# Altium footprint library Silicon Labs.PcbLib: 22 footprints (part 2 of 2)
Each footprint in its own frame and in the unit in brackets; x right, y up, seen from the top. Pads: shape width x height; smd on the part's side, far side on the other; paste and mask are expansions set on the pad; w line width, h text height; cw(c..) or ccw(c..) is an arc to the next point about the centre after c.
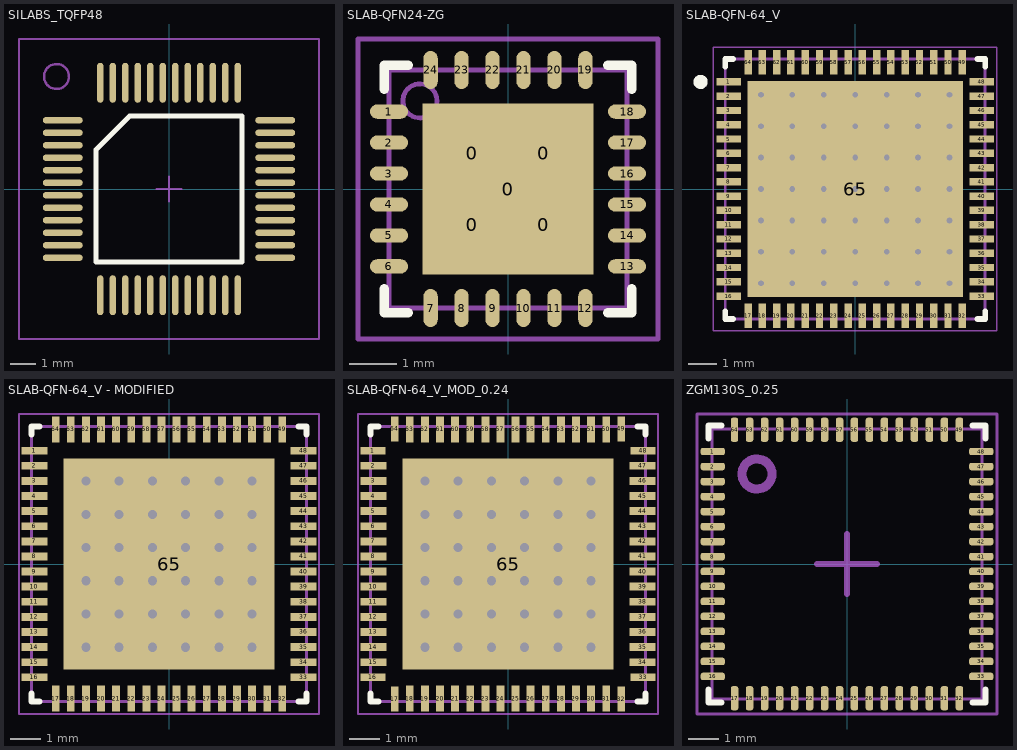
[diagram p1: the footprints below, top view; thin cyan lines are the x and y axes]

## SILABS_TQFP48 [mm]
pads (48):
  oval 1.6x0.25 smd: 1(-4.25,2.75) 2(-4.25,2.25) 3(-4.25,1.75) 4(-4.25,1.25) 5(-4.25,0.75) 6(-4.25,0.25) 7(-4.25,-0.25) 8(-4.25,-0.75) 9(-4.25,-1.25) 10(-4.25,-1.75) 11(-4.25,-2.25) 12(-4.25,-2.75) 25(4.25,-2.75) 26(4.25,-2.25) 27(4.25,-1.75) 28(4.25,-1.25) 29(4.25,-0.75) 30(4.25,-0.25) 31(4.25,0.25) 32(4.25,0.75) 33(4.25,1.25) 34(4.25,1.75) 35(4.25,2.25) 36(4.25,2.75)
  oval 0.25x1.6 smd: 13(-2.75,-4.25) 14(-2.25,-4.25) 15(-1.75,-4.25) 16(-1.25,-4.25) 17(-0.75,-4.25) 18(-0.25,-4.25) 19(0.25,-4.25) 20(0.75,-4.25) 21(1.25,-4.25) 22(1.75,-4.25) 23(2.25,-4.25) 24(2.75,-4.25) 37(2.75,4.25) 38(2.25,4.25) 39(1.75,4.25) 40(1.25,4.25) 41(0.75,4.25) 42(0.25,4.25) 43(-0.25,4.25) 44(-0.75,4.25) 45(-1.25,4.25) 46(-1.75,4.25) 47(-2.25,4.25) 48(-2.75,4.25)
Top Overlay:
  lines w0.2: -2.915,-2.915 -2.915,1.58 -1.58,2.915 2.915,2.915 2.915,-2.915 -2.915,-2.915
Mechanical 15:
  circle w0.1: c-4.5,4.5 r0.5
  lines w0.1: -0.5,0 0.5,0 ; 0,-0.5 0,0.5 ; -6,-6 6,-6 6,6 -6,6 -6,-6
3D body: height 1.6, standoff 0, extent -4.5,-4.5 4.5,4.5

## SLAB-QFN24-ZG [mm]
height 0.9
pads (29):
  rrect50% 1x1 smd: 0(-0.75,-0.75) 0(-0.75,0.75) 0(0.75,-0.75) 0(0.75,0.75)
  rect 3.6x3.6 smd paste-4: 0(0,0)
  oval 0.8x0.3 smd: 1(-2.5,1.625) 2(-2.5,0.975) 3(-2.5,0.325) 4(-2.5,-0.325) 5(-2.5,-0.975) 6(-2.5,-1.625) 13(2.5,-1.625) 14(2.5,-0.975) 15(2.5,-0.325) 16(2.5,0.325) 17(2.5,0.975) 18(2.5,1.625)
  oval 0.3x0.8 smd: 7(-1.625,-2.5) 8(-0.975,-2.5) 9(-0.325,-2.5) 10(0.325,-2.5) 11(0.975,-2.5) 12(1.625,-2.5) 19(1.625,2.5) 20(0.975,2.5) 21(0.325,2.5) 22(-0.325,2.5) 23(-0.975,2.5) 24(-1.625,2.5)
Top Overlay:
  lines w0.2: -2.6,-2.1 -2.6,-2.6 -2.1,-2.6 ; -2.6,2.1 -2.6,2.6 -2.1,2.6 ; 2.1,-2.6 2.6,-2.6 2.6,-2.1 ; 2.1,2.6 2.6,2.6 2.6,2.1
Mechanical 13:
  circle w0.1: c-1.85,1.85 r0.358
  lines w0.1: -2.5,-2.5 -2.5,2.5 2.5,2.5 2.5,-2.5 -2.5,-2.5
Mechanical 15:
  lines w0.1: -0.5,0 0.5,0 ; 0,-0.5 0,0.5 ; -3.15,-3.15 3.15,-3.15 3.15,3.15 -3.15,3.15 -3.15,-3.15
3D body: height 0.9, standoff 0, extent -2.5,-2.5 2.5,2.5

## SLAB-QFN-64_V [mm] "QFN, 64-Leads, Body 9.1x9.1mm, Pitch 0.5mm, Thermal Pad 7.55x7.55mm"
height 0.9
pads (65):
  rect 0.86x0.26 smd mask+0.06: 1(-4.435,3.75) 2(-4.435,3.25) 3(-4.435,2.75) 4(-4.435,2.25) 5(-4.435,1.75) 6(-4.435,1.25) 7(-4.435,0.75) 8(-4.435,0.25) 9(-4.435,-0.25) 10(-4.435,-0.75) 11(-4.435,-1.25) 12(-4.435,-1.75) 13(-4.435,-2.25) 14(-4.435,-2.75) 15(-4.435,-3.25) 16(-4.435,-3.75) 33(4.435,-3.75) 34(4.435,-3.25) 35(4.435,-2.75) 36(4.435,-2.25) 37(4.435,-1.75) 38(4.435,-1.25) 39(4.435,-0.75) 40(4.435,-0.25) 41(4.435,0.25) 42(4.435,0.75) 43(4.435,1.25) 44(4.435,1.75) 45(4.435,2.25) 46(4.435,2.75) 47(4.435,3.25) 48(4.435,3.75)
  rect 0.26x0.86 smd mask+0.06: 17(-3.75,-4.435) 18(-3.25,-4.435) 19(-2.75,-4.435) 20(-2.25,-4.435) 21(-1.75,-4.435) 22(-1.25,-4.435) 23(-0.75,-4.435) 24(-0.25,-4.435) 25(0.25,-4.435) 26(0.75,-4.435) 27(1.25,-4.435) 28(1.75,-4.435) 29(2.25,-4.435) 30(2.75,-4.435) 31(3.25,-4.435) 32(3.75,-4.435) 49(3.75,4.435) 50(3.25,4.435) 51(2.75,4.435) 52(2.25,4.435) 53(1.75,4.435) 54(1.25,4.435) 55(0.75,4.435) 56(0.25,4.435) 57(-0.25,4.435) 58(-0.75,4.435) 59(-1.25,4.435) 60(-1.75,4.435) 61(-2.25,4.435) 62(-2.75,4.435) 63(-3.25,4.435) 64(-3.75,4.435)
  rect 7.55x7.55 smd paste-7.55 mask+0.06: 65(0,0)
via 3.3,3.3 diameter 0.5 hole 0.2
via -3.3,3.3 diameter 0.5 hole 0.2
via -3.3,2.2 diameter 0.5 hole 0.2
via -3.3,1.1 diameter 0.5 hole 0.2
via -3.3,0 diameter 0.5 hole 0.2
via -3.3,-1.1 diameter 0.5 hole 0.2
via -3.3,-2.2 diameter 0.5 hole 0.2
via -3.3,-3.3 diameter 0.5 hole 0.2
via -2.2,3.3 diameter 0.5 hole 0.2
via -2.2,2.2 diameter 0.5 hole 0.2
via -2.2,1.1 diameter 0.5 hole 0.2
via -2.2,0 diameter 0.5 hole 0.2
via -2.2,-1.1 diameter 0.5 hole 0.2
via -2.2,-2.2 diameter 0.5 hole 0.2
via -2.2,-3.3 diameter 0.5 hole 0.2
via -1.1,3.3 diameter 0.5 hole 0.2
via -1.1,2.2 diameter 0.5 hole 0.2
via -1.1,1.1 diameter 0.5 hole 0.2
via -1.1,0 diameter 0.5 hole 0.2
via -1.1,-1.1 diameter 0.5 hole 0.2
via -1.1,-2.2 diameter 0.5 hole 0.2
via -1.1,-3.3 diameter 0.5 hole 0.2
via 0,3.3 diameter 0.5 hole 0.2
via 0,2.2 diameter 0.5 hole 0.2
via 0,1.1 diameter 0.5 hole 0.2
via 0,0 diameter 0.5 hole 0.2
via 0,-1.1 diameter 0.5 hole 0.2
via 0,-2.2 diameter 0.5 hole 0.2
via 0,-3.3 diameter 0.5 hole 0.2
via 1.1,3.3 diameter 0.5 hole 0.2
via 1.1,2.2 diameter 0.5 hole 0.2
via 1.1,1.1 diameter 0.5 hole 0.2
via 1.1,0 diameter 0.5 hole 0.2
via 1.1,-1.1 diameter 0.5 hole 0.2
via 1.1,-2.2 diameter 0.5 hole 0.2
via 1.1,-3.3 diameter 0.5 hole 0.2
via 2.2,3.3 diameter 0.5 hole 0.2
via 2.2,2.2 diameter 0.5 hole 0.2
via 2.2,1.1 diameter 0.5 hole 0.2
via 2.2,0 diameter 0.5 hole 0.2
via 2.2,-1.1 diameter 0.5 hole 0.2
via 2.2,-2.2 diameter 0.5 hole 0.2
via 2.2,-3.3 diameter 0.5 hole 0.2
via 3.3,2.2 diameter 0.5 hole 0.2
via 3.3,1.1 diameter 0.5 hole 0.2
via 3.3,0 diameter 0.5 hole 0.2
via 3.3,-1.1 diameter 0.5 hole 0.2
via 3.3,-2.2 diameter 0.5 hole 0.2
via 3.3,-3.3 diameter 0.5 hole 0.2
Top Overlay:
  circle w0.25: c-5.415,3.75 r0.125
  lines w0.2: -4.55,-4.28 -4.55,-4.55 -4.28,-4.55 ; -4.55,4.28 -4.55,4.55 -4.28,4.55 ; 4.28,-4.55 4.55,-4.55 4.55,-4.28 ; 4.28,4.55 4.55,4.55 4.55,4.28
Top Paste:
  rectangle: -2.8,1.55 -1.55,2.8
  rectangle: -2.8,0.1 -1.55,1.35
  rectangle: -2.8,-1.35 -1.55,-0.1
  rectangle: -2.8,-2.8 -1.55,-1.55
  region: 2.8,-1.55 1.55,-1.55 1.55,-2.8 2.8,-2.8
  region: 2.8,-0.1 1.55,-0.1 1.55,-1.35 2.8,-1.35
  region: 2.8,1.35 1.55,1.35 1.55,0.1 2.8,0.1
  region: 2.8,2.8 1.55,2.8 1.55,1.55 2.8,1.55
  region: -0.1,-2.8 -0.1,-1.55 -1.35,-1.55 -1.35,-2.8
  region: 0.1,2.8 0.1,1.55 1.35,1.55 1.35,2.8
  region: -1.35,2.8 -1.35,1.55 -0.1,1.55 -0.1,2.8
  region: 1.35,-2.8 1.35,-1.55 0.1,-1.55 0.1,-2.8
  region: -1.35,1.35 -1.35,0.1 -0.1,0.1 -0.1,1.35
  region: -1.35,-0.1 -1.35,-1.35 -0.1,-1.35 -0.1,-0.1
  region: 0.1,1.35 0.1,0.1 1.35,0.1 1.35,1.35
  region: 0.1,-0.1 0.1,-1.35 1.35,-1.35 1.35,-0.1
Mechanical 13:
  lines w0.1: -4.55,-4.55 4.55,-4.55 4.55,4.55 -4.55,4.55 -4.55,-4.55
Mechanical 15:
  lines w0.05: -4.965,-4.965 -4.965,4.965 4.965,4.965 4.965,-4.965 -4.965,-4.965
  lines w0.1: -0.5,0 0.5,0 ; 0,-0.5 0,0.5
3D body: height 0.9, standoff 0, extent -4.55,-4.55 4.55,4.55

## SLAB-QFN-64_V - MODIFIED [mm] "QFN, 64-Leads, Body 9.1x9.1mm, Pitch 0.5mm, Thermal Pad 7.55x7.55mm"
height 0.9
pads (65):
  rect 0.86x0.26 smd mask+0.06: 1(-4.455,3.75) 2(-4.455,3.25) 3(-4.455,2.75) 4(-4.455,2.25) 5(-4.455,1.75) 6(-4.455,1.25) 7(-4.455,0.75) 8(-4.455,0.25) 9(-4.455,-0.25) 10(-4.455,-0.75) 11(-4.455,-1.25) 12(-4.455,-1.75) 13(-4.455,-2.25) 14(-4.455,-2.75) 15(-4.455,-3.25) 16(-4.455,-3.75) 33(4.455,-3.75) 34(4.455,-3.25) 35(4.455,-2.75) 36(4.455,-2.25) 37(4.455,-1.75) 38(4.455,-1.25) 39(4.455,-0.75) 40(4.455,-0.25) 41(4.455,0.25) 42(4.455,0.75) 43(4.455,1.25) 44(4.455,1.75) 45(4.455,2.25) 46(4.455,2.75) 47(4.455,3.25) 48(4.455,3.75)
  rect 0.26x0.86 smd mask+0.06: 17(-3.75,-4.455) 18(-3.25,-4.455) 19(-2.75,-4.455) 20(-2.25,-4.455) 21(-1.75,-4.455) 22(-1.25,-4.455) 23(-0.75,-4.455) 24(-0.25,-4.455) 25(0.25,-4.455) 26(0.75,-4.455) 27(1.25,-4.455) 28(1.75,-4.455) 29(2.25,-4.455) 30(2.75,-4.455) 31(3.25,-4.455) 32(3.75,-4.455) 49(3.75,4.455) 50(3.25,4.455) 51(2.75,4.455) 52(2.25,4.455) 53(1.75,4.455) 54(1.25,4.455) 55(0.75,4.455) 56(0.25,4.455) 57(-0.25,4.455) 58(-0.75,4.455) 59(-1.25,4.455) 60(-1.75,4.455) 61(-2.25,4.455) 62(-2.75,4.455) 63(-3.25,4.455) 64(-3.75,4.455)
  rect 7x7 smd paste-7.55 mask+0.06: 65(0,0)
via 2.75,-2.755 diameter 0.6 hole 0.3
via 2.75,-1.655 diameter 0.6 hole 0.3
via 2.75,-0.555 diameter 0.6 hole 0.3
via 2.75,0.545 diameter 0.6 hole 0.3
via 2.75,1.645 diameter 0.6 hole 0.3
via 2.75,2.745 diameter 0.6 hole 0.3
via 1.65,-2.755 diameter 0.6 hole 0.3
via 1.65,-1.655 diameter 0.6 hole 0.3
via 1.65,-0.555 diameter 0.6 hole 0.3
via 1.65,0.545 diameter 0.6 hole 0.3
via 1.65,1.645 diameter 0.6 hole 0.3
via 1.65,2.745 diameter 0.6 hole 0.3
via 0.55,-2.755 diameter 0.6 hole 0.3
via 0.55,-1.655 diameter 0.6 hole 0.3
via 0.55,-0.555 diameter 0.6 hole 0.3
via 0.55,0.545 diameter 0.6 hole 0.3
via 0.55,1.645 diameter 0.6 hole 0.3
via 0.55,2.745 diameter 0.6 hole 0.3
via -0.55,-2.755 diameter 0.6 hole 0.3
via -0.55,-1.655 diameter 0.6 hole 0.3
via -0.55,-0.555 diameter 0.6 hole 0.3
via -0.55,0.545 diameter 0.6 hole 0.3
via -0.55,1.645 diameter 0.6 hole 0.3
via -0.55,2.745 diameter 0.6 hole 0.3
via -1.65,-2.755 diameter 0.6 hole 0.3
via -1.65,-1.655 diameter 0.6 hole 0.3
via -1.65,-0.555 diameter 0.6 hole 0.3
via -1.65,0.545 diameter 0.6 hole 0.3
via -1.65,1.645 diameter 0.6 hole 0.3
via -1.65,2.745 diameter 0.6 hole 0.3
via -2.75,-2.755 diameter 0.6 hole 0.3
via -2.75,-1.655 diameter 0.6 hole 0.3
via -2.75,-0.555 diameter 0.6 hole 0.3
via -2.75,0.545 diameter 0.6 hole 0.3
via -2.75,1.645 diameter 0.6 hole 0.3
via -2.75,2.745 diameter 0.6 hole 0.3
Top Overlay:
  lines w0.2: -4.55,-4.28 -4.55,-4.55 -4.28,-4.55 ; -4.55,4.28 -4.55,4.55 -4.28,4.55 ; 4.28,-4.55 4.55,-4.55 4.55,-4.28 ; 4.28,4.55 4.55,4.55 4.55,4.28
Top Paste:
  region: 0.1,-0.1 0.1,-1.35 1.35,-1.35 1.35,-0.1
  region: 0.1,1.35 0.1,0.1 1.35,0.1 1.35,1.35
  region: -1.35,-0.1 -1.35,-1.35 -0.1,-1.35 -0.1,-0.1
  region: -1.35,1.35 -1.35,0.1 -0.1,0.1 -0.1,1.35
  region: 1.35,-2.8 1.35,-1.55 0.1,-1.55 0.1,-2.8
  region: -1.35,2.8 -1.35,1.55 -0.1,1.55 -0.1,2.8
  region: 0.1,2.8 0.1,1.55 1.35,1.55 1.35,2.8
  region: -0.1,-2.8 -0.1,-1.55 -1.35,-1.55 -1.35,-2.8
  region: 2.8,2.8 1.55,2.8 1.55,1.55 2.8,1.55
  region: 2.8,1.35 1.55,1.35 1.55,0.1 2.8,0.1
  region: 2.8,-0.1 1.55,-0.1 1.55,-1.35 2.8,-1.35
  region: 2.8,-1.55 1.55,-1.55 1.55,-2.8 2.8,-2.8
  rectangle: -2.8,-2.8 -1.55,-1.55
  rectangle: -2.8,-1.35 -1.55,-0.1
  rectangle: -2.8,0.1 -1.55,1.35
  rectangle: -2.8,1.55 -1.55,2.8
Mechanical 13:
  lines w0.1: -4.55,-4.55 -4.55,4.55 4.55,4.55 4.55,-4.55 -4.55,-4.55
Mechanical 15:
  lines w0.05: -4.965,-4.965 4.965,-4.965 4.965,4.965 -4.965,4.965 -4.965,-4.965
  lines w0.1: -0.5,0 0.5,0 ; 0,-0.5 0,0.5
3D body: height 0.9, standoff 0, extent -4.52,-4.54 4.52,4.5

## SLAB-QFN-64_V_MOD_0.24 [mm] "QFN, 64-Leads, Body 9.1x9.1mm, Pitch 0.5mm, Thermal Pad 7.55x7.55mm"
height 0.9
pads (65):
  rect 0.83x0.26 smd mask+0.06: 1(-4.47,3.75) 16(-4.47,-3.75) 33(4.47,-3.75) 48(4.47,3.75)
  rect 0.86x0.26 smd mask+0.06: 2(-4.455,3.25) 3(-4.455,2.75) 4(-4.455,2.25) 5(-4.455,1.75) 6(-4.455,1.25) 7(-4.455,0.75) 8(-4.455,0.25) 9(-4.455,-0.25) 10(-4.455,-0.75) 11(-4.455,-1.25) 12(-4.455,-1.75) 13(-4.455,-2.25) 14(-4.455,-2.75) 15(-4.455,-3.25) 34(4.455,-3.25) 35(4.455,-2.75) 36(4.455,-2.25) 37(4.455,-1.75) 38(4.455,-1.25) 39(4.455,-0.75) 40(4.455,-0.25) 41(4.455,0.25) 42(4.455,0.75) 43(4.455,1.25) 44(4.455,1.75) 45(4.455,2.25) 46(4.455,2.75) 47(4.455,3.25)
  rect 0.26x0.83 smd mask+0.06: 17(-3.75,-4.47) 32(3.75,-4.47) 49(3.75,4.47) 64(-3.75,4.47)
  rect 0.26x0.86 smd mask+0.06: 18(-3.25,-4.455) 19(-2.75,-4.455) 20(-2.25,-4.455) 21(-1.75,-4.455) 22(-1.25,-4.455) 23(-0.75,-4.455) 24(-0.25,-4.455) 25(0.25,-4.455) 26(0.75,-4.455) 27(1.25,-4.455) 28(1.75,-4.455) 29(2.25,-4.455) 30(2.75,-4.455) 31(3.25,-4.455) 50(3.25,4.455) 51(2.75,4.455) 52(2.25,4.455) 53(1.75,4.455) 54(1.25,4.455) 55(0.75,4.455) 56(0.25,4.455) 57(-0.25,4.455) 58(-0.75,4.455) 59(-1.25,4.455) 60(-1.75,4.455) 61(-2.25,4.455) 62(-2.75,4.455) 63(-3.25,4.455)
  rect 7x7 smd paste-7.55 mask+0.06: 65(0,0)
via 2.75,-2.755 diameter 0.6 hole 0.3
via 2.75,-1.655 diameter 0.6 hole 0.3
via 2.75,-0.555 diameter 0.6 hole 0.3
via 2.75,0.545 diameter 0.6 hole 0.3
via 2.75,1.645 diameter 0.6 hole 0.3
via 2.75,2.745 diameter 0.6 hole 0.3
via 1.65,-2.755 diameter 0.6 hole 0.3
via 1.65,-1.655 diameter 0.6 hole 0.3
via 1.65,-0.555 diameter 0.6 hole 0.3
via 1.65,0.545 diameter 0.6 hole 0.3
via 1.65,1.645 diameter 0.6 hole 0.3
via 1.65,2.745 diameter 0.6 hole 0.3
via 0.55,-2.755 diameter 0.6 hole 0.3
via 0.55,-1.655 diameter 0.6 hole 0.3
via 0.55,-0.555 diameter 0.6 hole 0.3
via 0.55,0.545 diameter 0.6 hole 0.3
via 0.55,1.645 diameter 0.6 hole 0.3
via 0.55,2.745 diameter 0.6 hole 0.3
via -0.55,-2.755 diameter 0.6 hole 0.3
via -0.55,-1.655 diameter 0.6 hole 0.3
via -0.55,-0.555 diameter 0.6 hole 0.3
via -0.55,0.545 diameter 0.6 hole 0.3
via -0.55,1.645 diameter 0.6 hole 0.3
via -0.55,2.745 diameter 0.6 hole 0.3
via -1.65,-2.755 diameter 0.6 hole 0.3
via -1.65,-1.655 diameter 0.6 hole 0.3
via -1.65,-0.555 diameter 0.6 hole 0.3
via -1.65,0.545 diameter 0.6 hole 0.3
via -1.65,1.645 diameter 0.6 hole 0.3
via -1.65,2.745 diameter 0.6 hole 0.3
via -2.75,-2.755 diameter 0.6 hole 0.3
via -2.75,-1.655 diameter 0.6 hole 0.3
via -2.75,-0.555 diameter 0.6 hole 0.3
via -2.75,0.545 diameter 0.6 hole 0.3
via -2.75,1.645 diameter 0.6 hole 0.3
via -2.75,2.745 diameter 0.6 hole 0.3
Top Overlay:
  lines w0.2: -4.55,-4.28 -4.55,-4.55 -4.28,-4.55 ; -4.55,4.28 -4.55,4.55 -4.28,4.55 ; 4.28,-4.55 4.55,-4.55 4.55,-4.28 ; 4.28,4.55 4.55,4.55 4.55,4.28
Top Paste:
  region: 0.1,-0.1 0.1,-1.35 1.35,-1.35 1.35,-0.1
  region: 0.1,1.35 0.1,0.1 1.35,0.1 1.35,1.35
  region: -1.35,-0.1 -1.35,-1.35 -0.1,-1.35 -0.1,-0.1
  region: -1.35,1.35 -1.35,0.1 -0.1,0.1 -0.1,1.35
  region: 1.35,-2.8 1.35,-1.55 0.1,-1.55 0.1,-2.8
  region: -1.35,2.8 -1.35,1.55 -0.1,1.55 -0.1,2.8
  region: 0.1,2.8 0.1,1.55 1.35,1.55 1.35,2.8
  region: -0.1,-2.8 -0.1,-1.55 -1.35,-1.55 -1.35,-2.8
  region: 2.8,2.8 1.55,2.8 1.55,1.55 2.8,1.55
  region: 2.8,1.35 1.55,1.35 1.55,0.1 2.8,0.1
  region: 2.8,-0.1 1.55,-0.1 1.55,-1.35 2.8,-1.35
  region: 2.8,-1.55 1.55,-1.55 1.55,-2.8 2.8,-2.8
  rectangle: -2.8,-2.8 -1.55,-1.55
  rectangle: -2.8,-1.35 -1.55,-0.1
  rectangle: -2.8,0.1 -1.55,1.35
  rectangle: -2.8,1.55 -1.55,2.8
Mechanical 13:
  lines w0.1: -4.55,-4.55 -4.55,4.55 4.55,4.55 4.55,-4.55 -4.55,-4.55
Mechanical 15:
  lines w0.05: -4.965,-4.965 4.965,-4.965 4.965,4.965 -4.965,4.965 -4.965,-4.965
  lines w0.1: -0.5,0 0.5,0 ; 0,-0.5 0,0.5
3D body: height 0.9, standoff 0, extent -4.52,-4.54 4.52,4.5

## ZGM130S_0.25 [mm]
pads (64):
  rrect50% 0.8x0.25 smd paste+0: 1(-4.475,3.75)
  rrect50% 0.8x0.25 smd: 2(-4.475,3.25) 3(-4.475,2.75) 4(-4.475,2.25) 5(-4.475,1.75) 6(-4.475,1.25) 7(-4.475,0.75) 8(-4.475,0.25) 9(-4.475,-0.25) 10(-4.475,-0.75) 11(-4.475,-1.25) 12(-4.475,-1.75) 13(-4.475,-2.25) 14(-4.475,-2.75) 15(-4.475,-3.25) 16(-4.475,-3.75) 33(4.475,-3.75) 34(4.475,-3.25) 35(4.475,-2.75) 36(4.475,-2.25) 37(4.475,-1.75) 38(4.475,-1.25) 39(4.475,-0.75) 40(4.475,-0.25) 41(4.475,0.25) 42(4.475,0.75) 43(4.475,1.25) 44(4.475,1.75) 45(4.475,2.25) 46(4.475,2.75) 47(4.475,3.25) 48(4.475,3.75)
  rrect50% 0.25x0.8 smd: 17(-3.75,-4.475) 18(-3.25,-4.475) 19(-2.75,-4.475) 20(-2.25,-4.475) 21(-1.75,-4.475) 22(-1.25,-4.475) 23(-0.75,-4.475) 24(-0.25,-4.475) 25(0.25,-4.475) 26(0.75,-4.475) 27(1.25,-4.475) 28(1.75,-4.475) 29(2.25,-4.475) 30(2.75,-4.475) 31(3.25,-4.475) 32(3.75,-4.475) 49(3.75,4.475) 50(3.25,4.475) 51(2.75,4.475) 52(2.25,4.475) 53(1.75,4.475) 54(1.25,4.475) 55(0.75,4.475) 56(0.25,4.475) 57(-0.25,4.475) 58(-0.75,4.475) 59(-1.25,4.475) 60(-1.75,4.475) 61(-2.25,4.475) 62(-2.75,4.475) 63(-3.25,4.475) 64(-3.75,4.475)
Top Overlay:
  lines w0.2: -4.625,-4.175 -4.625,-4.625 -4.175,-4.625 ; -4.625,4.175 -4.625,4.625 -4.175,4.625 ; 4.175,-4.625 4.625,-4.625 4.625,-4.175 ; 4.175,4.625 4.625,4.625 4.625,4.175
Mechanical 13:
  circle w0.3: c-3,3 r0.5
  lines w0.1: -4.5,-4.5 -4.5,4.5 4.5,4.5 4.5,-4.5 -4.5,-4.5
Mechanical 15:
  lines w0.1: -5,-5 5,-5 5,5 -5,5 -5,-5
  lines w0.2: -1,0 1,0 ; 0,-1 0,1
3D body: height 1.3, standoff 0, extent -4.5,-4.5 4.5,4.5